# Altium footprint library Connector_Molex.PcbLib: 815 footprints (part 45 of 51)
Each footprint in its own frame and in the unit in brackets; x right, y up, seen from the top. Pads: shape width x height; smd on the part's side, far side on the other; paste and mask are expansions set on the pad; w line width, h text height; cw(c..) or ccw(c..) is an arc to the next point about the centre after c.
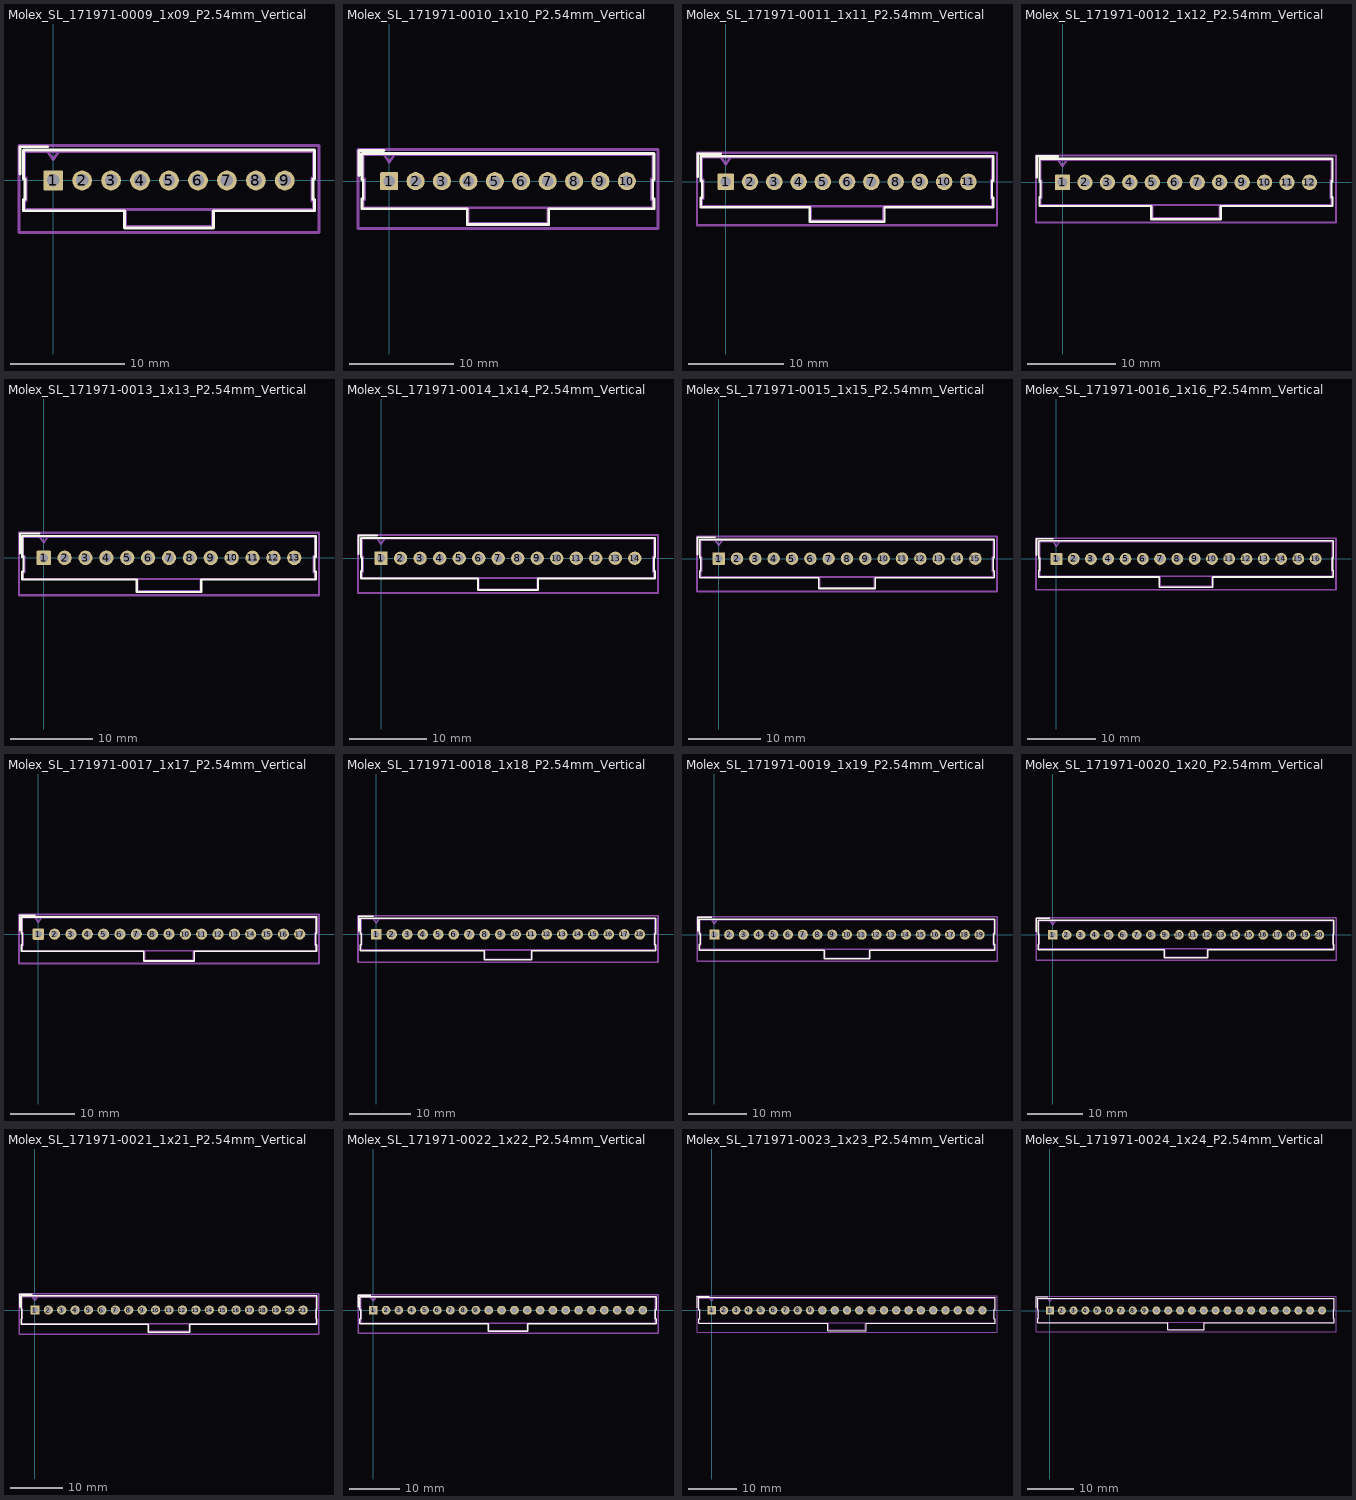
[diagram p44: the footprints below, top view; thin cyan lines are the x and y axes]

## Molex_SL_171971-0009_1x09_P2.54mm_Vertical [mm]
pads (9):
  rrect14% 1.74x1.74 hole 1.09: 1(0,0)
  round 1.74 hole 1.09: 2(2.54,0) 3(5.08,0) 4(7.62,0) 5(10.16,0) 6(12.7,0) 7(15.24,0) 8(17.78,0) 9(20.32,0)
F.SilkS:
  lines w0.254: -2.91,0.55 -2.91,2.96 -0.5,2.96 ; -2.61,-2.66 6.24,-2.66 6.24,-4.16 14.08,-4.16 14.08,-2.66 22.93,-2.66 22.93,-1.68 22.8,-1.68 22.8,0.13 22.93,0.13 22.93,2.66 -2.61,2.66 -2.61,0.13 -2.48,0.13 -2.48,-1.68 -2.61,-1.68 -2.61,-2.66
Top Assembly:
  lines w0.254: -0.5,2.55 0,1.843 0.5,2.55 ; 6.35,-2.55 6.35,-4.05 13.97,-4.05 13.97,-2.55 ; -2.5,-2.55 22.82,-2.55 22.82,-1.79 22.69,-1.79 22.69,0.24 22.82,0.24 22.82,2.55 -2.5,2.55 -2.5,0.24 -2.37,0.24 -2.37,-1.79 -2.5,-1.79 -2.5,-2.55
  text "'.Designator'" at 6.113,-2.69 h1
Top Courtyard:
  lines w0.254: -3,-4.55 23.32,-4.55 23.32,3.05 -3,3.05 -3,-4.55
Top Designator:
  text ".Designator" at 2.542,-1.258 h1.52

## Molex_SL_171971-0010_1x10_P2.54mm_Vertical [mm]
pads (10):
  rrect14% 1.74x1.74 hole 1.09: 1(0,0)
  round 1.74 hole 1.09: 2(2.54,0) 3(5.08,0) 4(7.62,0) 5(10.16,0) 6(12.7,0) 7(15.24,0) 8(17.78,0) 9(20.32,0) 10(22.86,0)
F.SilkS:
  lines w0.254: -2.91,0.55 -2.91,2.96 -0.5,2.96 ; -2.61,-2.66 7.51,-2.66 7.51,-4.16 15.35,-4.16 15.35,-2.66 25.47,-2.66 25.47,-1.68 25.34,-1.68 25.34,0.13 25.47,0.13 25.47,2.66 -2.61,2.66 -2.61,0.13 -2.48,0.13 -2.48,-1.68 -2.61,-1.68 -2.61,-2.66
Top Assembly:
  lines w0.254: -0.5,2.55 0,1.843 0.5,2.55 ; 7.62,-2.55 7.62,-4.05 15.24,-4.05 15.24,-2.55 ; -2.5,-2.55 25.36,-2.55 25.36,-1.79 25.23,-1.79 25.23,0.24 25.36,0.24 25.36,2.55 -2.5,2.55 -2.5,0.24 -2.37,0.24 -2.37,-1.79 -2.5,-1.79 -2.5,-2.55
  text "'.Designator'" at 7.383,-2.69 h1
Top Courtyard:
  lines w0.254: -3,-4.55 25.86,-4.55 25.86,3.05 -3,3.05 -3,-4.55
Top Designator:
  text ".Designator" at 3.812,-1.258 h1.52

## Molex_SL_171971-0011_1x11_P2.54mm_Vertical [mm]
pads (11):
  rrect14% 1.74x1.74 hole 1.09: 1(0,0)
  round 1.74 hole 1.09: 2(2.54,0) 3(5.08,0) 4(7.62,0) 5(10.16,0) 6(12.7,0) 7(15.24,0) 8(17.78,0) 9(20.32,0) 10(22.86,0) 11(25.4,0)
F.SilkS:
  lines w0.254: -2.91,0.55 -2.91,2.96 -0.5,2.96 ; -2.61,-2.66 8.78,-2.66 8.78,-4.16 16.62,-4.16 16.62,-2.66 28.01,-2.66 28.01,-1.68 27.88,-1.68 27.88,0.13 28.01,0.13 28.01,2.66 -2.61,2.66 -2.61,0.13 -2.48,0.13 -2.48,-1.68 -2.61,-1.68 -2.61,-2.66
Top Assembly:
  lines w0.254: -0.5,2.55 0,1.843 0.5,2.55 ; 8.89,-2.55 8.89,-4.05 16.51,-4.05 16.51,-2.55 ; -2.5,-2.55 27.9,-2.55 27.9,-1.79 27.77,-1.79 27.77,0.24 27.9,0.24 27.9,2.55 -2.5,2.55 -2.5,0.24 -2.37,0.24 -2.37,-1.79 -2.5,-1.79 -2.5,-2.55
  text "'.Designator'" at 8.653,-2.69 h1
Top Courtyard:
  lines w0.254: -3.01,-4.55 28.4,-4.55 28.4,3.05 -3.01,3.05 -3.01,-4.55
Top Designator:
  text ".Designator" at 5.077,-1.258 h1.52

## Molex_SL_171971-0012_1x12_P2.54mm_Vertical [mm]
pads (12):
  rrect14% 1.74x1.74 hole 1.09: 1(0,0)
  round 1.74 hole 1.09: 2(2.54,0) 3(5.08,0) 4(7.62,0) 5(10.16,0) 6(12.7,0) 7(15.24,0) 8(17.78,0) 9(20.32,0) 10(22.86,0) 11(25.4,0) 12(27.94,0)
F.SilkS:
  lines w0.254: -2.91,0.55 -2.91,2.96 -0.5,2.96 ; -2.61,-2.66 10.05,-2.66 10.05,-4.16 17.89,-4.16 17.89,-2.66 30.55,-2.66 30.55,-1.68 30.42,-1.68 30.42,0.13 30.55,0.13 30.55,2.66 -2.61,2.66 -2.61,0.13 -2.48,0.13 -2.48,-1.68 -2.61,-1.68 -2.61,-2.66
Top Assembly:
  lines w0.254: -0.5,2.55 0,1.843 0.5,2.55 ; 10.16,-2.55 10.16,-4.05 17.78,-4.05 17.78,-2.55 ; -2.5,-2.55 30.44,-2.55 30.44,-1.79 30.31,-1.79 30.31,0.24 30.44,0.24 30.44,2.55 -2.5,2.55 -2.5,0.24 -2.37,0.24 -2.37,-1.79 -2.5,-1.79 -2.5,-2.55
  text "'.Designator'" at 9.923,-2.69 h1
Top Courtyard:
  lines w0.254: -3,-4.55 30.94,-4.55 30.94,3.05 -3,3.05 -3,-4.55
Top Designator:
  text ".Designator" at 6.352,-1.258 h1.52

## Molex_SL_171971-0013_1x13_P2.54mm_Vertical [mm]
pads (13):
  rrect14% 1.74x1.74 hole 1.09: 1(0,0)
  round 1.74 hole 1.09: 2(2.54,0) 3(5.08,0) 4(7.62,0) 5(10.16,0) 6(12.7,0) 7(15.24,0) 8(17.78,0) 9(20.32,0) 10(22.86,0) 11(25.4,0) 12(27.94,0) 13(30.48,0)
F.SilkS:
  lines w0.254: -2.91,0.55 -2.91,2.96 -0.5,2.96 ; -2.61,-2.66 11.32,-2.66 11.32,-4.16 19.16,-4.16 19.16,-2.66 33.09,-2.66 33.09,-1.68 32.96,-1.68 32.96,0.13 33.09,0.13 33.09,2.66 -2.61,2.66 -2.61,0.13 -2.48,0.13 -2.48,-1.68 -2.61,-1.68 -2.61,-2.66
Top Assembly:
  lines w0.254: -0.5,2.55 0,1.843 0.5,2.55 ; 11.43,-2.55 11.43,-4.05 19.05,-4.05 19.05,-2.55 ; -2.5,-2.55 32.98,-2.55 32.98,-1.79 32.85,-1.79 32.85,0.24 32.98,0.24 32.98,2.55 -2.5,2.55 -2.5,0.24 -2.37,0.24 -2.37,-1.79 -2.5,-1.79 -2.5,-2.55
  text "'.Designator'" at 11.193,-2.69 h1
Top Courtyard:
  lines w0.254: -3.01,-4.55 33.49,-4.55 33.49,3.05 -3.01,3.05 -3.01,-4.55
Top Designator:
  text ".Designator" at 7.622,-1.258 h1.52

## Molex_SL_171971-0014_1x14_P2.54mm_Vertical [mm]
pads (14):
  rrect14% 1.74x1.74 hole 1.09: 1(0,0)
  round 1.74 hole 1.09: 2(2.54,0) 3(5.08,0) 4(7.62,0) 5(10.16,0) 6(12.7,0) 7(15.24,0) 8(17.78,0) 9(20.32,0) 10(22.86,0) 11(25.4,0) 12(27.94,0) 13(30.48,0) 14(33.02,0)
F.SilkS:
  lines w0.254: -2.91,0.55 -2.91,2.96 -0.5,2.96 ; -2.61,-2.66 12.59,-2.66 12.59,-4.16 20.43,-4.16 20.43,-2.66 35.63,-2.66 35.63,-1.68 35.5,-1.68 35.5,0.13 35.63,0.13 35.63,2.66 -2.61,2.66 -2.61,0.13 -2.48,0.13 -2.48,-1.68 -2.61,-1.68 -2.61,-2.66
Top Assembly:
  lines w0.254: -0.5,2.55 0,1.843 0.5,2.55 ; 12.7,-2.55 12.7,-4.05 20.32,-4.05 20.32,-2.55 ; -2.5,-2.55 35.52,-2.55 35.52,-1.79 35.39,-1.79 35.39,0.24 35.52,0.24 35.52,2.55 -2.5,2.55 -2.5,0.24 -2.37,0.24 -2.37,-1.79 -2.5,-1.79 -2.5,-2.55
  text "'.Designator'" at 12.463,-2.69 h1
Top Courtyard:
  lines w0.254: -3,-4.55 36.03,-4.55 36.03,3.05 -3,3.05 -3,-4.55
Top Designator:
  text ".Designator" at 8.897,-1.258 h1.52

## Molex_SL_171971-0015_1x15_P2.54mm_Vertical [mm]
pads (15):
  rrect14% 1.74x1.74 hole 1.09: 1(0,0)
  round 1.74 hole 1.09: 2(2.54,0) 3(5.08,0) 4(7.62,0) 5(10.16,0) 6(12.7,0) 7(15.24,0) 8(17.78,0) 9(20.32,0) 10(22.86,0) 11(25.4,0) 12(27.94,0) 13(30.48,0) 14(33.02,0) 15(35.56,0)
F.SilkS:
  lines w0.254: -2.91,0.55 -2.91,2.96 -0.5,2.96 ; -2.61,-2.66 13.86,-2.66 13.86,-4.16 21.7,-4.16 21.7,-2.66 38.17,-2.66 38.17,-1.68 38.04,-1.68 38.04,0.13 38.17,0.13 38.17,2.66 -2.61,2.66 -2.61,0.13 -2.48,0.13 -2.48,-1.68 -2.61,-1.68 -2.61,-2.66
Top Assembly:
  lines w0.254: -0.5,2.55 0,1.843 0.5,2.55 ; 13.97,-2.55 13.97,-4.05 21.59,-4.05 21.59,-2.55 ; -2.5,-2.55 38.06,-2.55 38.06,-1.79 37.93,-1.79 37.93,0.24 38.06,0.24 38.06,2.55 -2.5,2.55 -2.5,0.24 -2.37,0.24 -2.37,-1.79 -2.5,-1.79 -2.5,-2.55
  text "'.Designator'" at 13.733,-2.69 h1
Top Courtyard:
  lines w0.254: -3,-4.55 38.56,-4.55 38.56,3.05 -3,3.05 -3,-4.55
Top Designator:
  text ".Designator" at 10.162,-1.258 h1.52

## Molex_SL_171971-0016_1x16_P2.54mm_Vertical [mm]
pads (16):
  rrect14% 1.74x1.74 hole 1.09: 1(0,0)
  round 1.74 hole 1.09: 2(2.54,0) 3(5.08,0) 4(7.62,0) 5(10.16,0) 6(12.7,0) 7(15.24,0) 8(17.78,0) 9(20.32,0) 10(22.86,0) 11(25.4,0) 12(27.94,0) 13(30.48,0) 14(33.02,0) 15(35.56,0) 16(38.1,0)
F.SilkS:
  lines w0.254: -2.91,0.55 -2.91,2.96 -0.5,2.96 ; -2.61,-2.66 15.13,-2.66 15.13,-4.16 22.97,-4.16 22.97,-2.66 40.71,-2.66 40.71,-1.68 40.58,-1.68 40.58,0.13 40.71,0.13 40.71,2.66 -2.61,2.66 -2.61,0.13 -2.48,0.13 -2.48,-1.68 -2.61,-1.68 -2.61,-2.66
Top Assembly:
  lines w0.254: -0.5,2.55 0,1.843 0.5,2.55 ; 15.24,-2.55 15.24,-4.05 22.86,-4.05 22.86,-2.55 ; -2.5,-2.55 40.6,-2.55 40.6,-1.79 40.47,-1.79 40.47,0.24 40.6,0.24 40.6,2.55 -2.5,2.55 -2.5,0.24 -2.37,0.24 -2.37,-1.79 -2.5,-1.79 -2.5,-2.55
  text "'.Designator'" at 15.003,-2.69 h1
Top Courtyard:
  lines w0.254: -3,-4.55 41.1,-4.55 41.1,3.05 -3,3.05 -3,-4.55
Top Designator:
  text ".Designator" at 11.432,-1.258 h1.52

## Molex_SL_171971-0017_1x17_P2.54mm_Vertical [mm]
pads (17):
  rrect14% 1.74x1.74 hole 1.09: 1(0,0)
  round 1.74 hole 1.09: 2(2.54,0) 3(5.08,0) 4(7.62,0) 5(10.16,0) 6(12.7,0) 7(15.24,0) 8(17.78,0) 9(20.32,0) 10(22.86,0) 11(25.4,0) 12(27.94,0) 13(30.48,0) 14(33.02,0) 15(35.56,0) 16(38.1,0) 17(40.64,0)
F.SilkS:
  lines w0.254: -2.91,0.55 -2.91,2.96 -0.5,2.96 ; -2.61,-2.66 16.4,-2.66 16.4,-4.16 24.24,-4.16 24.24,-2.66 43.25,-2.66 43.25,-1.68 43.12,-1.68 43.12,0.13 43.25,0.13 43.25,2.66 -2.61,2.66 -2.61,0.13 -2.48,0.13 -2.48,-1.68 -2.61,-1.68 -2.61,-2.66
Top Assembly:
  lines w0.254: -0.5,2.55 0,1.843 0.5,2.55 ; 16.51,-2.55 16.51,-4.05 24.13,-4.05 24.13,-2.55 ; -2.5,-2.55 43.14,-2.55 43.14,-1.79 43.01,-1.79 43.01,0.24 43.14,0.24 43.14,2.55 -2.5,2.55 -2.5,0.24 -2.37,0.24 -2.37,-1.79 -2.5,-1.79 -2.5,-2.55
  text "'.Designator'" at 16.273,-2.69 h1
Top Courtyard:
  lines w0.254: -3,-4.55 43.64,-4.55 43.64,3.05 -3,3.05 -3,-4.55
Top Designator:
  text ".Designator" at 12.702,-1.258 h1.52

## Molex_SL_171971-0018_1x18_P2.54mm_Vertical [mm]
pads (18):
  rrect14% 1.74x1.74 hole 1.09: 1(0,0)
  round 1.74 hole 1.09: 2(2.54,0) 3(5.08,0) 4(7.62,0) 5(10.16,0) 6(12.7,0) 7(15.24,0) 8(17.78,0) 9(20.32,0) 10(22.86,0) 11(25.4,0) 12(27.94,0) 13(30.48,0) 14(33.02,0) 15(35.56,0) 16(38.1,0) 17(40.64,0) 18(43.18,0)
F.SilkS:
  lines w0.254: -2.91,0.55 -2.91,2.96 -0.5,2.96 ; -2.61,-2.66 17.67,-2.66 17.67,-4.16 25.51,-4.16 25.51,-2.66 45.79,-2.66 45.79,-1.68 45.66,-1.68 45.66,0.13 45.79,0.13 45.79,2.66 -2.61,2.66 -2.61,0.13 -2.48,0.13 -2.48,-1.68 -2.61,-1.68 -2.61,-2.66
Top Assembly:
  lines w0.254: -0.5,2.55 0,1.843 0.5,2.55 ; 17.78,-2.55 17.78,-4.05 25.4,-4.05 25.4,-2.55 ; -2.5,-2.55 45.68,-2.55 45.68,-1.79 45.55,-1.79 45.55,0.24 45.68,0.24 45.68,2.55 -2.5,2.55 -2.5,0.24 -2.37,0.24 -2.37,-1.79 -2.5,-1.79 -2.5,-2.55
  text "'.Designator'" at 17.543,-2.69 h1
Top Courtyard:
  lines w0.254: -3,-4.55 46.18,-4.55 46.18,3.05 -3,3.05 -3,-4.55
Top Designator:
  text ".Designator" at 13.972,-1.258 h1.52

## Molex_SL_171971-0019_1x19_P2.54mm_Vertical [mm]
pads (19):
  rrect14% 1.74x1.74 hole 1.09: 1(0,0)
  round 1.74 hole 1.09: 2(2.54,0) 3(5.08,0) 4(7.62,0) 5(10.16,0) 6(12.7,0) 7(15.24,0) 8(17.78,0) 9(20.32,0) 10(22.86,0) 11(25.4,0) 12(27.94,0) 13(30.48,0) 14(33.02,0) 15(35.56,0) 16(38.1,0) 17(40.64,0) 18(43.18,0) 19(45.72,0)
F.SilkS:
  lines w0.254: -2.91,0.55 -2.91,2.96 -0.5,2.96 ; -2.61,-2.66 18.94,-2.66 18.94,-4.16 26.78,-4.16 26.78,-2.66 48.33,-2.66 48.33,-1.68 48.2,-1.68 48.2,0.13 48.33,0.13 48.33,2.66 -2.61,2.66 -2.61,0.13 -2.48,0.13 -2.48,-1.68 -2.61,-1.68 -2.61,-2.66
Top Assembly:
  lines w0.254: -0.5,2.55 0,1.843 0.5,2.55 ; 19.05,-2.55 19.05,-4.05 26.67,-4.05 26.67,-2.55 ; -2.5,-2.55 48.22,-2.55 48.22,-1.79 48.09,-1.79 48.09,0.24 48.22,0.24 48.22,2.55 -2.5,2.55 -2.5,0.24 -2.37,0.24 -2.37,-1.79 -2.5,-1.79 -2.5,-2.55
  text "'.Designator'" at 18.813,-2.69 h1
Top Courtyard:
  lines w0.254: -3,-4.55 48.72,-4.55 48.72,3.05 -3,3.05 -3,-4.55
Top Designator:
  text ".Designator" at 15.242,-1.258 h1.52

## Molex_SL_171971-0020_1x20_P2.54mm_Vertical [mm]
pads (20):
  rrect14% 1.74x1.74 hole 1.09: 1(0,0)
  round 1.74 hole 1.09: 2(2.54,0) 3(5.08,0) 4(7.62,0) 5(10.16,0) 6(12.7,0) 7(15.24,0) 8(17.78,0) 9(20.32,0) 10(22.86,0) 11(25.4,0) 12(27.94,0) 13(30.48,0) 14(33.02,0) 15(35.56,0) 16(38.1,0) 17(40.64,0) 18(43.18,0) 19(45.72,0) 20(48.26,0)
F.SilkS:
  lines w0.254: -2.91,0.55 -2.91,2.96 -0.5,2.96 ; -2.61,-2.66 20.21,-2.66 20.21,-4.16 28.05,-4.16 28.05,-2.66 50.87,-2.66 50.87,-1.68 50.74,-1.68 50.74,0.13 50.87,0.13 50.87,2.66 -2.61,2.66 -2.61,0.13 -2.48,0.13 -2.48,-1.68 -2.61,-1.68 -2.61,-2.66
Top Assembly:
  lines w0.254: -0.5,2.55 0,1.843 0.5,2.55 ; 20.32,-2.55 20.32,-4.05 27.94,-4.05 27.94,-2.55 ; -2.5,-2.55 50.76,-2.55 50.76,-1.79 50.63,-1.79 50.63,0.24 50.76,0.24 50.76,2.55 -2.5,2.55 -2.5,0.24 -2.37,0.24 -2.37,-1.79 -2.5,-1.79 -2.5,-2.55
  text "'.Designator'" at 20.083,-2.69 h1
Top Courtyard:
  lines w0.254: -3,-4.55 51.26,-4.55 51.26,3.05 -3,3.05 -3,-4.55
Top Designator:
  text ".Designator" at 16.512,-1.258 h1.52

## Molex_SL_171971-0021_1x21_P2.54mm_Vertical [mm]
pads (21):
  rrect14% 1.74x1.74 hole 1.09: 1(0,0)
  round 1.74 hole 1.09: 2(2.54,0) 3(5.08,0) 4(7.62,0) 5(10.16,0) 6(12.7,0) 7(15.24,0) 8(17.78,0) 9(20.32,0) 10(22.86,0) 11(25.4,0) 12(27.94,0) 13(30.48,0) 14(33.02,0) 15(35.56,0) 16(38.1,0) 17(40.64,0) 18(43.18,0) 19(45.72,0) 20(48.26,0) 21(50.8,0)
F.SilkS:
  lines w0.254: -2.91,0.55 -2.91,2.96 -0.5,2.96 ; -2.61,-2.66 21.48,-2.66 21.48,-4.16 29.32,-4.16 29.32,-2.66 53.41,-2.66 53.41,-1.68 53.28,-1.68 53.28,0.13 53.41,0.13 53.41,2.66 -2.61,2.66 -2.61,0.13 -2.48,0.13 -2.48,-1.68 -2.61,-1.68 -2.61,-2.66
Top Assembly:
  lines w0.254: -0.5,2.55 0,1.843 0.5,2.55 ; 21.59,-2.55 21.59,-4.05 29.21,-4.05 29.21,-2.55 ; -2.5,-2.55 53.3,-2.55 53.3,-1.79 53.17,-1.79 53.17,0.24 53.3,0.24 53.3,2.55 -2.5,2.55 -2.5,0.24 -2.37,0.24 -2.37,-1.79 -2.5,-1.79 -2.5,-2.55
  text "'.Designator'" at 21.353,-2.69 h1
Top Courtyard:
  lines w0.254: -3.01,-4.55 53.8,-4.55 53.8,3.05 -3.01,3.05 -3.01,-4.55
Top Designator:
  text ".Designator" at 17.777,-1.258 h1.52

## Molex_SL_171971-0022_1x22_P2.54mm_Vertical [mm]
pads (22):
  rrect14% 1.74x1.74 hole 1.09: 1(0,0)
  round 1.74 hole 1.09: 2(2.54,0) 3(5.08,0) 4(7.62,0) 5(10.16,0) 6(12.7,0) 7(15.24,0) 8(17.78,0) 9(20.32,0) 10(22.86,0) 11(25.4,0) 12(27.94,0) 13(30.48,0) 14(33.02,0) 15(35.56,0) 16(38.1,0) 17(40.64,0) 18(43.18,0) 19(45.72,0) 20(48.26,0) 21(50.8,0) 22(53.34,0)
F.SilkS:
  lines w0.254: -2.91,0.55 -2.91,2.96 -0.5,2.96 ; -2.61,-2.66 22.75,-2.66 22.75,-4.16 30.59,-4.16 30.59,-2.66 55.95,-2.66 55.95,-1.68 55.82,-1.68 55.82,0.13 55.95,0.13 55.95,2.66 -2.61,2.66 -2.61,0.13 -2.48,0.13 -2.48,-1.68 -2.61,-1.68 -2.61,-2.66
Top Assembly:
  lines w0.254: -0.5,2.55 0,1.843 0.5,2.55 ; 22.86,-2.55 22.86,-4.05 30.48,-4.05 30.48,-2.55 ; -2.5,-2.55 55.84,-2.55 55.84,-1.79 55.71,-1.79 55.71,0.24 55.84,0.24 55.84,2.55 -2.5,2.55 -2.5,0.24 -2.37,0.24 -2.37,-1.79 -2.5,-1.79 -2.5,-2.55
  text "'.Designator'" at 22.623,-2.69 h1
Top Courtyard:
  lines w0.254: -3,-4.55 56.34,-4.55 56.34,3.05 -3,3.05 -3,-4.55
Top Designator:
  text ".Designator" at 19.052,-1.258 h1.52

## Molex_SL_171971-0023_1x23_P2.54mm_Vertical [mm]
pads (23):
  rrect14% 1.74x1.74 hole 1.09: 1(0,0)
  round 1.74 hole 1.09: 2(2.54,0) 3(5.08,0) 4(7.62,0) 5(10.16,0) 6(12.7,0) 7(15.24,0) 8(17.78,0) 9(20.32,0) 10(22.86,0) 11(25.4,0) 12(27.94,0) 13(30.48,0) 14(33.02,0) 15(35.56,0) 16(38.1,0) 17(40.64,0) 18(43.18,0) 19(45.72,0) 20(48.26,0) 21(50.8,0) 22(53.34,0) 23(55.88,0)
F.SilkS:
  lines w0.254: -2.91,0.55 -2.91,2.96 -0.5,2.96 ; -2.61,-2.66 24.02,-2.66 24.02,-4.16 31.86,-4.16 31.86,-2.66 58.49,-2.66 58.49,-1.68 58.36,-1.68 58.36,0.13 58.49,0.13 58.49,2.66 -2.61,2.66 -2.61,0.13 -2.48,0.13 -2.48,-1.68 -2.61,-1.68 -2.61,-2.66
Top Assembly:
  lines w0.254: -0.5,2.55 0,1.843 0.5,2.55 ; 24.13,-2.55 24.13,-4.05 31.75,-4.05 31.75,-2.55 ; -2.5,-2.55 58.38,-2.55 58.38,-1.79 58.25,-1.79 58.25,0.24 58.38,0.24 58.38,2.55 -2.5,2.55 -2.5,0.24 -2.37,0.24 -2.37,-1.79 -2.5,-1.79 -2.5,-2.55
  text "'.Designator'" at 23.893,-2.69 h1
Top Courtyard:
  lines w0.254: -3,-4.55 58.88,-4.55 58.88,3.05 -3,3.05 -3,-4.55
Top Designator:
  text ".Designator" at 20.322,-1.258 h1.52

## Molex_SL_171971-0024_1x24_P2.54mm_Vertical [mm]
pads (24):
  rrect14% 1.74x1.74 hole 1.09: 1(0,0)
  round 1.74 hole 1.09: 2(2.54,0) 3(5.08,0) 4(7.62,0) 5(10.16,0) 6(12.7,0) 7(15.24,0) 8(17.78,0) 9(20.32,0) 10(22.86,0) 11(25.4,0) 12(27.94,0) 13(30.48,0) 14(33.02,0) 15(35.56,0) 16(38.1,0) 17(40.64,0) 18(43.18,0) 19(45.72,0) 20(48.26,0) 21(50.8,0) 22(53.34,0) 23(55.88,0) 24(58.42,0)
F.SilkS:
  lines w0.254: -2.91,0.55 -2.91,2.96 -0.5,2.96 ; -2.61,-2.66 25.29,-2.66 25.29,-4.16 33.13,-4.16 33.13,-2.66 61.03,-2.66 61.03,-1.68 60.9,-1.68 60.9,0.13 61.03,0.13 61.03,2.66 -2.61,2.66 -2.61,0.13 -2.48,0.13 -2.48,-1.68 -2.61,-1.68 -2.61,-2.66
Top Assembly:
  lines w0.254: -0.5,2.55 0,1.843 0.5,2.55 ; 25.4,-2.55 25.4,-4.05 33.02,-4.05 33.02,-2.55 ; -2.5,-2.55 60.92,-2.55 60.92,-1.79 60.79,-1.79 60.79,0.24 60.92,0.24 60.92,2.55 -2.5,2.55 -2.5,0.24 -2.37,0.24 -2.37,-1.79 -2.5,-1.79 -2.5,-2.55
  text "'.Designator'" at 25.163,-2.69 h1
Top Courtyard:
  lines w0.254: -3,-4.55 61.42,-4.55 61.42,3.05 -3,3.05 -3,-4.55
Top Designator:
  text ".Designator" at 21.592,-1.258 h1.52